# EAGLE library part AD828_MODULE (library ad828_module)
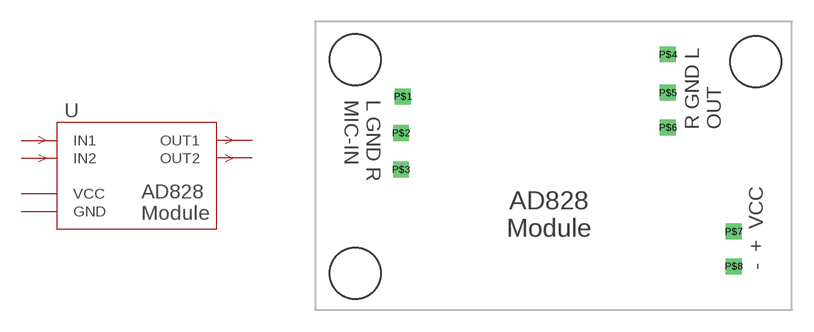
[diagram p0: symbol with the pads of AD828_MODULE_F; footprint AD828_MODULE_F]

Designator prefix -

## AD828_MODULE  [AD828_MODULE_F]
P$1  IN1  in
P$2  GND  pwr
P$3  IN2  in
P$4  OUT1  out
P$5  GND  pwr
P$6  OUT2  in
P$7  VCC  pwr
P$8  GND  pwr

## Footprint AD828_MODULE_F (pad centres in mm)
drill 0.6 square: P$1 6.096,14.859; P$2 5.969,12.319; P$3 5.969,9.779; P$4 24.511,17.78; P$5 24.511,15.113; P$6 24.511,12.7; P$7 29.083,5.461; P$8 29.083,3.048